# Altium footprint library SOT23-6 inverted.PcbLib: 1 footprints
Each footprint in its own frame and in the unit in brackets; x right, y up, seen from the top. Pads: shape width x height; smd on the part's side, far side on the other; paste and mask are expansions set on the pad; w line width, h text height; cw(c..) or ccw(c..) is an arc to the next point about the centre after c.
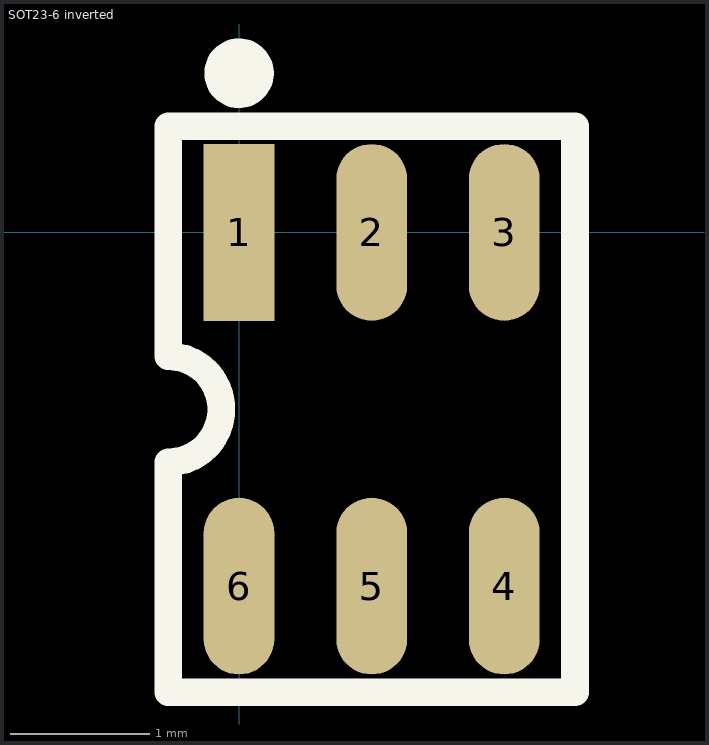
[diagram p0: the footprint, top view; thin cyan lines are the x and y axes]

## SOT23-6 inverted [mil]
pads (6):
  rect 20x50 smd: 1(0,0)
  oval 20x50 smd: 2(37.5,0) 3(75,0) 4(75,-100) 5(37.5,-100) 6(0,-100)
Top Overlay:
  circle w9.84: c0,45 r4.92
  lines w7.87: -20,-130 95,-130 95,30 -20,30 -20,-35 cw(c-20,-50) -20,-65 -20,-130
3D body "sot23-6.stp": height 0.1, standoff -46.58, extent -19.5,-105.12 94.5,5.12